# Altium integrated library 691214110003.IntLib: 1 symbol
Pins are listed as number, name and electrical type; pins without a type are passive.

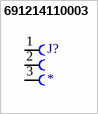
[diagram p0: symbol 691214110003]

## 691214110003
designator J?
3 Position Wire to Board Terminal Block Horizontal with Board 0.138 (3.50mm) Through Hole; MP: 691214110003; MF: Wurth Elektronik; Value: *; SnapEDA_Link: https://www.snapeda.com/parts/691214110003/Wurth+Elektronik/view-part/?ref=snap; Package: None; Availability: In Stock; Purchase-URL: https://pricing.snapeda.com/search/part/691214110003/?ref=eda; Check_prices: https://www.snapeda.com/parts/691214110003/Wurth+Elektronik/view-part/?ref=eda; Price: None
footprint 691214110003
pins: 1, 2, 3